# Altium schematic symbol library ALTAIR_PD_Headers.SchLib: 7 symbols
Pins are listed as number, name and electrical type; pins without a type are passive.

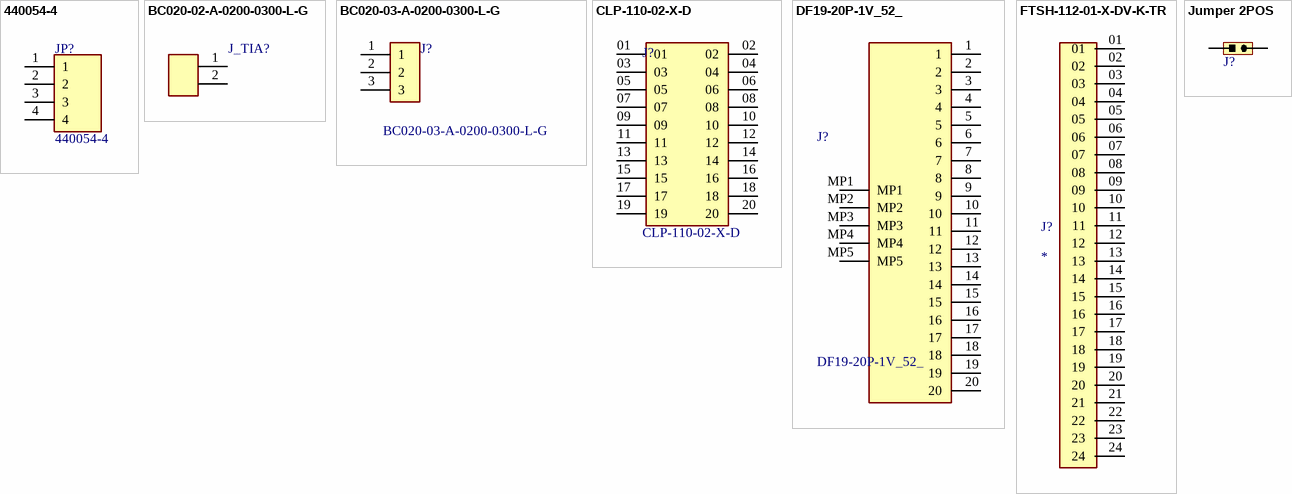
[diagram p0: symbols 440054-4 to Jumper 2POS]

## 440054-4
designator JP?
4x1 Header SMD Partial Shroud; Manufacturer_Name: TE Connectivity; Datasheet Link: https://www.te.com/commerce/DocumentDelivery/DDEController?Action=srchrtrv&DocNm=1-1773713-2_HPI_QRG_EN&DocType=Data%20Sheet&DocLang=English&PartCntxt=440054-4&DocFormat=pdf; Height: 6.35mm; Manufacturer_Part_Number: 440054-4; Mouser Part Number: 571-440054-4; Mouser Price/Stock: https://www.mouser.co.uk/ProductDetail/TE-Connectivity/440054-4?qs=JFPmFzpscO7310iGSDds%2FA%3D%3D; Arrow Part Number: 440054-4; Arrow Price/Stock: https://www.arrow.com/en/products/440054-4/te-connectivity?utm_currency=USD&region=europe
footprint HEADER MALE 4x1 2MM PITCH THT
pins: 1, 2, 3, 4

## BC020-02-A-0200-0300-L-G
designator J_TIA?, comment J_TIA  (value not drawn)
2x1 Header SMD; Manufacturer_Name: GCT (GLOBAL CONNECTOR TECHNOLOGY); Manufacturer_Part_Number: BC020-02-A-0200-0300-L-G; Datasheet Link: https://gct.co/connector/bc020; Mouser Part Number: 640-BC02002A02300LG; Mouser Price/Stock: https://www.mouser.co.uk/ProductDetail/GCT/BC020-02-A-0200-0300-L-G?qs=KUoIvG%2F9IlakgsojlT9P9w%3D%3D
footprint JUMPER 2POS 1MM PITCH THT (GCT BC020-02-A-0200-0300-L-G)
pins: 1, 2

## BC020-03-A-0200-0300-L-G
designator J?
3x1 Header SMD; Manufacturer_Name: GCT (GLOBAL CONNECTOR TECHNOLOGY); Datasheet Link: https://www.mouser.com/datasheet/2/837/BC020-1948594.pdf; Height: 3.2mm; Manufacturer_Part_Number: BC020-03-A-0200-0300-L-G
footprint JUMPER 3POS 1MM PITCH THT (GCT BC020-03-A-0200-0300-L-G)
pins: 1, 2, 3

## CLP-110-02-X-D
designator J?
10x2 Stacking Header SMD / 20 Position Receptacle Connector 0.050 (1.27mm) Surface Mount, Right Angle Gold; MF: Samtec; MP: CLP-110-02-L-D; SnapEDA_Link: https://www.snapeda.com/parts/CLP-110-02-L-D/Samtec/view-part/?ref=snap; Package: None; Value: *; Check_prices: https://www.snapeda.com/parts/CLP-110-02-L-D/Samtec/view-part/?ref=eda
footprint HEADER FEMALE 10X2 1.27MM PITCH SMD
pins: 01, 02, 03, 04, 05, 06, 07, 08, 09, 10, 11, 12, 13, 14, 15, 16, 17, 18, 19, 20

## DF19-20P-1V_52_
designator J?
20x1 Header SMD; Manufacturer_Name: Hirose; Manufacturer_Part_Number: DF19-20P-1V(52); Datasheet Link: https://www.hirose.com/en/product/document?clcode=CL0685-0037-0-52&productname=DF19-20P-1V(52)&series=DF19&documenttype=2DDrawing&lang=en&documentid=0001394451; Height: 5.37mm; Mouser Part Number: 798-DF1920P1V52; Mouser Price/Stock: https://www.mouser.co.uk/ProductDetail/Hirose-Connector/DF19-20P-1V52?qs=QNEnbhJQKvayaXitD7MtBA%3D%3D
footprint HEADER MALE 20x1 1MM PITCH SMD
pins: 1, 2, 3, 4, 5, 6, 7, 8, 9, 10, 11, 12, 13, 14, 15, 16, 17, 18, 19, 20, MP1, MP2, MP3, MP4, MP5

## FTSH-112-01-X-DV-K-TR
designator J?
MF: {'manufacturer': u'Samtec'}; MP: FTSH-112-01-X-DV-K-TR; Package: None; Price: None; Value: *; Availability: Unavailable
footprint SAMTEC_FTSH-112-01-X-DV-K-TR
pins: 01, 02, 03, 04, 05, 06, 07, 08, 09, 10, 11, 12, 13, 14, 15, 16, 17, 18, 19, 20, 21, 22, 23, 24

## Jumper 2POS
designator J?, comment Jumper  (value not drawn)
CONN HEADER VERT 2POS; Supplier 1: Digi-Key; Supplier Part Number 1: SAM1068-01-ND; Operating Temperature: -55°C ~ 125°C
footprint JUMPER 2POS 2.54MM PITCH THT
footprint Jumper 2POS 1.27mm (CONN HEADER VERT 2POS 1.27mm)
pins: 1, 2